# EAGLE library part 08C2-1X1T-03 (library Modular Jacks)
CONN MAGJACK 1PORT 100 BASE-T Manufacturer's datasheet <https://belfuse.com/resources/drawings/magneticsolutions/dr-mag-08c2-1x1t-03.pdf>
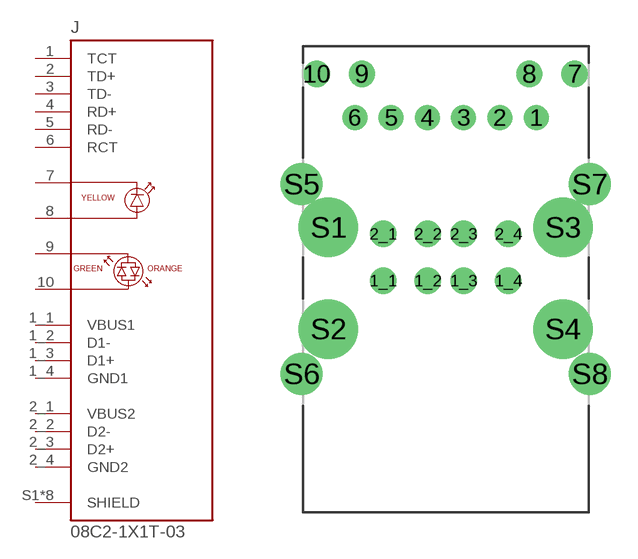
[diagram p6: symbol with the pads of 08C2-1X1T-03; footprint 08C2-1X1T-03]

Designator prefix J

## 08C2-1X1T-03 (CREATED_BY: PCBLayout.com; DIGIKEY_PN: 507-1449-ND; MANUFACTURER: Bel Fuse Inc.; MPN: 08C2-1X1T-03)  [08C2-1X1T-03]
1  TCT  pas
1_1  VBUS1  pas
1_2  D1-  pas
1_3  D1+  pas
1_4  GND1  pas
2  TD+  pas
2_1  VBUS2  pas
2_2  D2-  pas
2_3  D2+  pas
2_4  GND2  pas
3  TD-  pas
4  RD+  pas
5  RD-  pas
6  RCT  pas
7  7  pas
8  8  pas
9  9  pas
10  10  pas
S1  SHIELD  pwr
S2  SHIELD  pwr
S3  SHIELD  pwr
S4  SHIELD  pwr
S5  SHIELD  pwr
S6  SHIELD  pwr
S7  SHIELD  pwr
S8  SHIELD  pwr

## Footprint 08C2-1X1T-03 (pad centres in mm)
drill 0.89: 1 5.065,9.14; 2 3.035,9.14; 3 1.005,9.14; 4 -1.025,9.14; 5 -3.055,9.14; 6 -5.085,9.14
drill 0.97: 1_1 -3.505,0; 1_2 -1.005,0; 1_3 1.005,0; 1_4 3.505,0; 2_1 -3.505,2.62; 2_2 -1.005,2.62; 2_3 1.005,2.62; 2_4 3.505,2.62; 7 7.225,11.58; 8 4.685,11.58; 9 -4.685,11.58; 10 -7.225,11.58
drill 2.31: S1 -6.565,2.99; S2 -6.565,-2.7; S3 6.565,2.99; S4 6.565,-2.7
drill 1.57: S5 -8.065,5.41; S6 -8.065,-5.21; S7 8.065,5.41; S8 8.065,-5.21